# Altium footprint library MCP9700T-E_TT.PcbLib: 2 footprints
Each footprint in its own frame and in the unit in brackets; x right, y up, seen from the top. Pads: shape width x height; smd on the part's side, far side on the other; paste and mask are expansions set on the pad; w line width, h text height; cw(c..) or ccw(c..) is an arc to the next point about the centre after c.
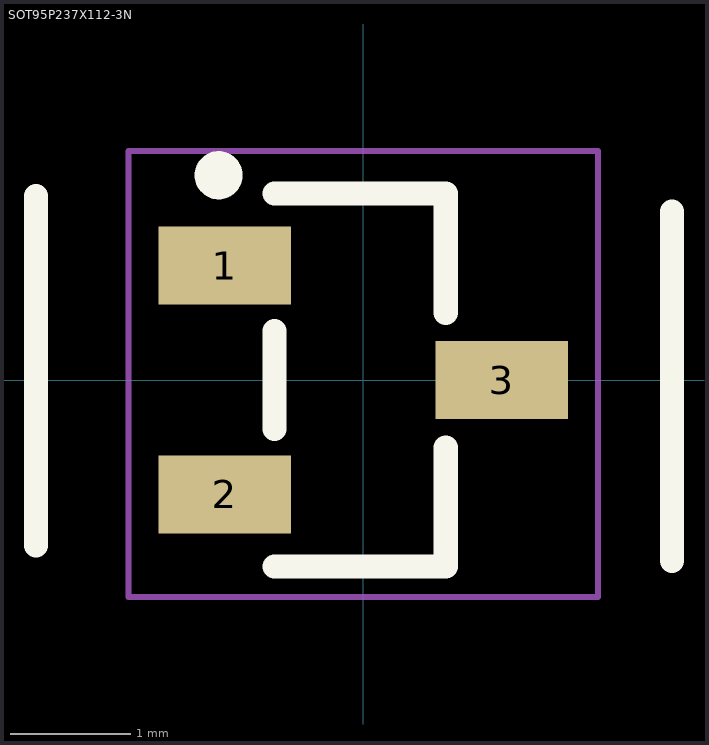
[diagram p0: the footprints below, top view; thin cyan lines are the x and y axes]

## PCBComponent_1 [mm]

## SOT95P237X112-3N [mm]
pads (3):
  rect 1.1x0.65 smd: 1(-1.15,0.95) 2(-1.15,-0.95) 3(1.15,0)
Top Overlay:
  circle w0.2: c-1.2,1.7 r0.1
  lines w0.2: -2.718,-1.374 -2.718,1.526 ; -0.737,-1.549 0.686,-1.549 0.686,-0.559 ; -0.737,-0.406 -0.737,0.406 ; -0.737,1.549 0.686,1.549 0.686,0.559 ; 2.565,-1.501 2.565,1.399
Mechanical 4:
  lines w0.05: -1.95,-1.8 1.95,-1.8 1.95,1.9 -1.95,1.9 -1.95,-1.8
3D body "Package, SOT-23.STEP": height 1, standoff 0, extent -1.3,-1.45 1.3,1.45